# Altium schematic symbol library WE-VD.SchLib: 79 symbols (part 2 of 2)
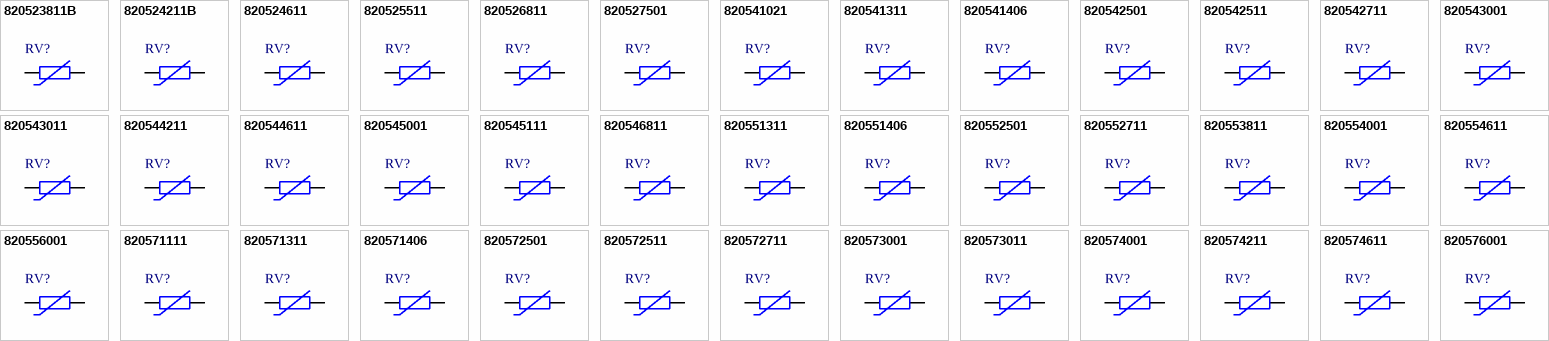
[diagram p2: symbols 820523811B to 820576001]

## 820543011
designator RV?, comment 300Vrms, 385Vdc  (value not drawn)
WE-VD Disk Varistor, THT, D16.5mm x H20mm, 300Vrms, 385Vdc, 4500A, 140J; Manufacturer Part Number: 820543011; Manufacturer: Wurth Elektronik; Operating Voltage (AC): 300V; Operating Voltage (DC): 385V; Power Dissipation: 0.6W; (Reverse) Breakdown Voltage: 470V; VDE Approval: Yes; Category: Surge Protection; Match Code: WE-VD; ComponentLink1Description: Website Link; ComponentLink1URL: https://www.we-online.com/redexpert/article/820543011?ad; ComponentLink2Description: Datasheet Link; ComponentLink2URL: https://www.we-online.com/redexpert/spec/820543011?ad; Mount: Through Hole; Operating Temperature Min: -40degC; Operating Temperature Max: 105degC; Packaging: Tape and Reel; Width: 7mm; Height: 20mm; Diameter: 16.5mm; Energy Absorption: 140J; (Reverse) Peak Pulse Current: 4500A
footprint D16.5W7H20P1.5_ShortPin
footprint D16.5W7H20P1.5
pins: 1, 2

## 820544211
designator RV?, comment 420Vrms, 560Vdc  (value not drawn)
WE-VD Disk Varistor, THT, D16.5mm x H20.5mm, 420Vrms, 560Vdc, 4500A, 172J; Manufacturer Part Number: 820544211; Manufacturer: Wurth Elektronik; Operating Voltage (AC): 420V; Operating Voltage (DC): 560V; Power Dissipation: 0.6W; (Reverse) Breakdown Voltage: 680V; VDE Approval: Yes; Category: Surge Protection; Match Code: WE-VD; ComponentLink1Description: Website Link; ComponentLink1URL: https://www.we-online.com/redexpert/article/820544211?ad; ComponentLink2Description: Datasheet Link; ComponentLink2URL: https://www.we-online.com/redexpert/spec/820544211?ad; Mount: Through Hole; Operating Temperature Min: -40degC; Operating Temperature Max: 105degC; Packaging: Tape and Reel; Width: 8.2mm; Height: 20.5mm; Diameter: 16.5mm; Energy Absorption: 172J; (Reverse) Peak Pulse Current: 4500A
footprint D16.5W8.2H20.5P2.5_ShortPin
footprint D16.5W8.2H20.5P2.5
pins: 1, 2

## 820544611
designator RV?, comment 460Vrms, 615Vdc  (value not drawn)
WE-VD Disk Varistor, THT, D16.5mm x H20.5mm, 460Vrms, 615Vdc, 4500A, 180J; Manufacturer Part Number: 820544611; Manufacturer: Wurth Elektronik; Operating Voltage (AC): 460V; Operating Voltage (DC): 615V; Power Dissipation: 0.6W; (Reverse) Breakdown Voltage: 750V; VDE Approval: Yes; Category: Surge Protection; Match Code: WE-VD; ComponentLink1Description: Website Link; ComponentLink1URL: https://www.we-online.com/redexpert/article/820544611?ad; ComponentLink2Description: Datasheet Link; ComponentLink2URL: https://www.we-online.com/redexpert/spec/820544611?ad; Mount: Through Hole; Operating Temperature Min: -40degC; Operating Temperature Max: 105degC; Packaging: Tape and Reel; Width: 8.6mm; Height: 20.5mm; Diameter: 16.5mm; Energy Absorption: 180J; (Reverse) Peak Pulse Current: 4500A
footprint D16.5W8.6H20.5P2.8_ShortPin
footprint D16.5W8.6H20.5P2.8
pins: 1, 2

## 820545001
designator RV?, comment 50Vrms, 65Vdc  (value not drawn)
WE-VD Disk Varistor, THT, D16.5mm x H19.5mm, 50Vrms, 65Vdc, 1000A, 22J; Manufacturer Part Number: 820545001; Manufacturer: Wurth Elektronik; Operating Voltage (AC): 50V; Operating Voltage (DC): 65V; Power Dissipation: 0.6W; (Reverse) Breakdown Voltage: 82V; VDE Approval: Yes; Category: Surge Protection; Match Code: WE-VD; ComponentLink1Description: Website Link; ComponentLink1URL: https://www.we-online.com/redexpert/article/820545001?ad; ComponentLink2Description: Datasheet Link; ComponentLink2URL: https://www.we-online.com/redexpert/spec/820545001?ad; Mount: Through Hole; Operating Temperature Min: -40degC; Operating Temperature Max: 105degC; Packaging: Tape and Reel; Width: 4.4mm; Height: 19.5mm; Diameter: 16.5mm; Energy Absorption: 22J; (Reverse) Peak Pulse Current: 1000A
footprint D16.5W4.4H19.5P0.8_ShortPin
footprint D16.5W4.4H19.5P0.8
pins: 1, 2

## 820545111
designator RV?, comment 510Vrms, 670Vdc  (value not drawn)
WE-VD Disk Varistor, THT, D16.5mm x H20.5mm, 510Vrms, 670Vdc, 4500A, 188J; Manufacturer Part Number: 820545111; Manufacturer: Wurth Elektronik; Operating Voltage (AC): 510V; Operating Voltage (DC): 670V; Power Dissipation: 0.6W; (Reverse) Breakdown Voltage: 820V; VDE Approval: Yes; Category: Surge Protection; Match Code: WE-VD; ComponentLink1Description: Website Link; ComponentLink1URL: https://www.we-online.com/redexpert/article/820545111?ad; ComponentLink2Description: Datasheet Link; ComponentLink2URL: https://www.we-online.com/redexpert/spec/820545111?ad; Mount: Through Hole; Operating Temperature Min: -40degC; Operating Temperature Max: 105degC; Packaging: Tape and Reel; Width: 9mm; Height: 20.5mm; Diameter: 16.5mm; Energy Absorption: 188J; (Reverse) Peak Pulse Current: 4500A
footprint D16.5W9H20.5P3.1_ShortPin
footprint D16.5W9H20.5P3.1
pins: 1, 2

## 820546811
designator RV?, comment 680Vrms, 895Vdc  (value not drawn)
WE-VD Disk Varistor, THT, D16.5mm x H20.5mm, 680Vrms, 895Vdc, 4500A, 248J; Manufacturer Part Number: 820546811; Manufacturer: Wurth Elektronik; Operating Voltage (AC): 680V; Operating Voltage (DC): 895V; Power Dissipation: 0.6W; (Reverse) Breakdown Voltage: 1100V; VDE Approval: Yes; Category: Surge Protection; Match Code: WE-VD; ComponentLink1Description: Website Link; ComponentLink1URL: https://www.we-online.com/redexpert/article/820546811?ad; ComponentLink2Description: Datasheet Link; ComponentLink2URL: https://www.we-online.com/redexpert/spec/820546811?ad; Mount: Through Hole; Operating Temperature Min: -40degC; Operating Temperature Max: 105degC; Packaging: Tape and Reel; Width: 10.7mm; Height: 20.5mm; Diameter: 16.5mm; Energy Absorption: 248J; (Reverse) Peak Pulse Current: 4500A
footprint D16.5W10.7H20.5P4.5_ShortPin
footprint D16.5W10.7H20.5P4.5
pins: 1, 2

## 820551311
designator RV?, comment 130Vrms, 170Vdc  (value not drawn)
WE-VD Disk Varistor, THT, D7.5mm x H10.5mm, 130Vrms, 170Vdc, 400A, 7.1J; Manufacturer Part Number: 820551311; Manufacturer: Wurth Elektronik; Operating Voltage (AC): 130V; Operating Voltage (DC): 170V; Power Dissipation: 0.1W; (Reverse) Breakdown Voltage: 200V; VDE Approval: Yes; Category: Surge Protection; Match Code: WE-VD; ComponentLink1Description: Website Link; ComponentLink1URL: https://www.we-online.com/redexpert/article/820551311?ad; ComponentLink2Description: Datasheet Link; ComponentLink2URL: https://www.we-online.com/redexpert/spec/820551311?ad; Mount: Through Hole; Operating Temperature Min: -40degC; Operating Temperature Max: 105degC; Packaging: Tape and Reel; Width: 4.2mm; Height: 10.5mm; Diameter: 7.5mm; Energy Absorption: 7.1J; (Reverse) Peak Pulse Current: 400A
footprint D7.5W4.2H10.5P0.8_ShortPin
footprint D7.5W4.2H10.5P0.8
pins: 1, 2

## 820551406
designator RV?, comment 14Vrms, 18Vdc  (value not drawn)
WE-VD Disk Varistor, THT, D7.5mm x H10.5mm, 14Vrms, 18Vdc, 100A, 0.7J; Manufacturer Part Number: 820551406; Manufacturer: Wurth Elektronik; Operating Voltage (AC): 14V; Operating Voltage (DC): 18V; Power Dissipation: 0.01W; (Reverse) Breakdown Voltage: 22V; VDE Approval: Yes; Category: Surge Protection; Match Code: WE-VD; ComponentLink1Description: Website Link; ComponentLink1URL: https://www.we-online.com/redexpert/article/820551406?ad; ComponentLink2Description: Datasheet Link; ComponentLink2URL: https://www.we-online.com/redexpert/spec/820551406?ad; Mount: Through Hole; Operating Temperature Min: -40degC; Operating Temperature Max: 105degC; Packaging: Tape and Reel; Width: 4.5mm; Height: 10.5mm; Diameter: 7.5mm; Energy Absorption: 0.7J; (Reverse) Peak Pulse Current: 100A
footprint D7.5W4.5H10.5P0.8_ShortPin
footprint D7.5W4.5H10.5P0.8
pins: 1, 2

## 820552501
designator RV?, comment 25Vrms, 31Vdc  (value not drawn)
WE-VD Disk Varistor, THT, D7.5mm x H10.5mm, 25Vrms, 31Vdc, 100A, 1.2J; Manufacturer Part Number: 820552501; Manufacturer: Wurth Elektronik; Operating Voltage (AC): 25V; Operating Voltage (DC): 31V; Power Dissipation: 0.01W; (Reverse) Breakdown Voltage: 39V; VDE Approval: Yes; Category: Surge Protection; Match Code: WE-VD; ComponentLink1Description: Website Link; ComponentLink1URL: https://www.we-online.com/redexpert/article/820552501?ad; ComponentLink2Description: Datasheet Link; ComponentLink2URL: https://www.we-online.com/redexpert/spec/820552501?ad; Mount: Through Hole; Operating Temperature Min: -40degC; Operating Temperature Max: 105degC; Packaging: Tape and Reel; Width: 4.7mm; Height: 10.5mm; Diameter: 7.5mm; Energy Absorption: 1.2J; (Reverse) Peak Pulse Current: 100A
footprint D7.5W4.7H10.5P0.8_ShortPin
footprint D7.5W4.7H10.5P0.8
pins: 1, 2

## 820552711
designator RV?, comment 275Vrms, 350Vdc  (value not drawn)
WE-VD Disk Varistor, THT, D7.5mm x H11mm, 275Vrms, 350Vdc, 400A, 16.5J; Manufacturer Part Number: 820552711; Manufacturer: Wurth Elektronik; Operating Voltage (AC): 275V; Operating Voltage (DC): 350V; Power Dissipation: 0.1W; (Reverse) Breakdown Voltage: 430V; VDE Approval: Yes; Category: Surge Protection; Match Code: WE-VD; ComponentLink1Description: Website Link; ComponentLink1URL: https://www.we-online.com/redexpert/article/820552711?ad; ComponentLink2Description: Datasheet Link; ComponentLink2URL: https://www.we-online.com/redexpert/spec/820552711?ad; Mount: Through Hole; Operating Temperature Min: -40degC; Operating Temperature Max: 105degC; Packaging: Tape and Reel; Width: 6.1mm; Height: 11mm; Diameter: 7.5mm; Energy Absorption: 16.5J; (Reverse) Peak Pulse Current: 400A
footprint D7.5W6.1H11P1.5_ShortPin
footprint D7.5W6.1H11P1.5
pins: 1, 2

## 820553811
designator RV?, comment 385Vrms, 505Vdc  (value not drawn)
WE-VD Disk Varistor, THT, D7.5mm x H11.5mm, 385Vrms, 505Vdc, 400A, 20.5J; Manufacturer Part Number: 820553811; Manufacturer: Wurth Elektronik; Operating Voltage (AC): 385V; Operating Voltage (DC): 505V; Power Dissipation: 0.1W; (Reverse) Breakdown Voltage: 620V; VDE Approval: Yes; Category: Surge Protection; Match Code: WE-VD; ComponentLink1Description: Website Link; ComponentLink1URL: https://www.we-online.com/redexpert/article/820553811?ad; ComponentLink2Description: Datasheet Link; ComponentLink2URL: https://www.we-online.com/redexpert/spec/820553811?ad; Mount: Through Hole; Operating Temperature Min: -40degC; Operating Temperature Max: 105degC; Packaging: Tape and Reel; Width: 7.2mm; Height: 11.5mm; Diameter: 7.5mm; Energy Absorption: 20.5J; (Reverse) Peak Pulse Current: 400A
footprint D7.5W7.2H11.5P2.4_ShortPin
footprint D7.5W7.2H11.5P2.4
pins: 1, 2

## 820554001
designator RV?, comment 40Vrms, 56Vdc  (value not drawn)
WE-VD Disk Varistor, THT, D7.5mm x H10.5mm, 40Vrms, 56Vdc, 100A, 2.1J; Manufacturer Part Number: 820554001; Manufacturer: Wurth Elektronik; Operating Voltage (AC): 40V; Operating Voltage (DC): 56V; Power Dissipation: 0.01W; (Reverse) Breakdown Voltage: 68V; VDE Approval: Yes; Category: Surge Protection; Match Code: WE-VD; ComponentLink1Description: Website Link; ComponentLink1URL: https://www.we-online.com/redexpert/article/820554001?ad; ComponentLink2Description: Datasheet Link; ComponentLink2URL: https://www.we-online.com/redexpert/spec/820554001?ad; Mount: Through Hole; Operating Temperature Min: -40degC; Operating Temperature Max: 105degC; Packaging: Tape and Reel; Width: 5.5mm; Height: 10.5mm; Diameter: 7.5mm; Energy Absorption: 2.1J; (Reverse) Peak Pulse Current: 100A
footprint D7.5W5.5H10.5P1.5_ShortPin
footprint D7.5W5.5H10.5P1.5
pins: 1, 2

## 820554611
designator RV?, comment 460Vrms, 615Vdc  (value not drawn)
WE-VD Disk Varistor, THT, D7.5mm x H11.5mm, 460Vrms, 615Vdc, 400A, 22.5J; Manufacturer Part Number: 820554611; Manufacturer: Wurth Elektronik; Operating Voltage (AC): 460V; Operating Voltage (DC): 615V; Power Dissipation: 0.1W; (Reverse) Breakdown Voltage: 750V; VDE Approval: Yes; Category: Surge Protection; Match Code: WE-VD; ComponentLink1Description: Website Link; ComponentLink1URL: https://www.we-online.com/redexpert/article/820554611?ad; ComponentLink2Description: Datasheet Link; ComponentLink2URL: https://www.we-online.com/redexpert/spec/820554611?ad; Mount: Through Hole; Operating Temperature Min: -40degC; Operating Temperature Max: 105degC; Packaging: Tape and Reel; Width: 7.9mm; Height: 11.5mm; Diameter: 7.5mm; Energy Absorption: 22.5J; (Reverse) Peak Pulse Current: 400A
footprint D7.5W7.9H11.5P3_ShortPin
footprint D7.5W7.9H11.5P3
pins: 1, 2

## 820556001
designator RV?, comment 60Vrms, 85Vdc  (value not drawn)
WE-VD Disk Varistor, THT, D7.5mm x H10.5mm, 60Vrms, 85Vdc, 400A, 3.5J; Manufacturer Part Number: 820556001; Manufacturer: Wurth Elektronik; Operating Voltage (AC): 60V; Operating Voltage (DC): 85V; Power Dissipation: 0.1W; (Reverse) Breakdown Voltage: 100V; VDE Approval: Yes; Category: Surge Protection; Match Code: WE-VD; ComponentLink1Description: Website Link; ComponentLink1URL: https://www.we-online.com/redexpert/article/820556001?ad; ComponentLink2Description: Datasheet Link; ComponentLink2URL: https://www.we-online.com/redexpert/spec/820556001?ad; Mount: Through Hole; Operating Temperature Min: -40degC; Operating Temperature Max: 105degC; Packaging: Tape and Reel; Width: 3.9mm; Height: 10.5mm; Diameter: 7.5mm; Energy Absorption: 3.5J; (Reverse) Peak Pulse Current: 400A
footprint D7.5W3.9H10.5P0.8_ShortPin
footprint D7.5W3.9H10.5P0.8
pins: 1, 2

## 820571111
designator RV?, comment 115Vrms, 150Vdc  (value not drawn)
WE-VD Disk Varistor, THT, D9mm x H12mm, 115Vrms, 150Vdc, 1200A, 13J; Manufacturer Part Number: 820571111; Manufacturer: Wurth Elektronik; Operating Voltage (AC): 115V; Operating Voltage (DC): 150V; Power Dissipation: 0.25W; (Reverse) Breakdown Voltage: 180V; VDE Approval: Yes; Category: Surge Protection; Match Code: WE-VD; ComponentLink1Description: Website Link; ComponentLink1URL: https://www.we-online.com/redexpert/article/820571111?ad; ComponentLink2Description: Datasheet Link; ComponentLink2URL: https://www.we-online.com/redexpert/spec/820571111?ad; Mount: Through Hole; Operating Temperature Min: -40degC; Operating Temperature Max: 105degC; Packaging: Tape and Reel; Width: 4.1mm; Height: 12mm; Diameter: 9mm; Energy Absorption: 13J; (Reverse) Peak Pulse Current: 1200A
footprint D9W4.1H12P0.8_ShortPin
footprint D9W4.1H12P0.8
pins: 1, 2

## 820571311
designator RV?, comment 130Vrms, 170Vdc  (value not drawn)
WE-VD Disk Varistor, THT, D9mm x H12mm, 130Vrms, 170Vdc, 1200A, 14.3J; Manufacturer Part Number: 820571311; Manufacturer: Wurth Elektronik; Operating Voltage (AC): 130V; Operating Voltage (DC): 170V; Power Dissipation: 0.25W; (Reverse) Breakdown Voltage: 200V; VDE Approval: Yes; Category: Surge Protection; Match Code: WE-VD; ComponentLink1Description: Website Link; ComponentLink1URL: https://www.we-online.com/redexpert/article/820571311?ad; ComponentLink2Description: Datasheet Link; ComponentLink2URL: https://www.we-online.com/redexpert/spec/820571311?ad; Mount: Through Hole; Operating Temperature Min: -40degC; Operating Temperature Max: 105degC; Packaging: Tape and Reel; Width: 4.2mm; Height: 12mm; Diameter: 9mm; Energy Absorption: 14.3J; (Reverse) Peak Pulse Current: 1200A
footprint D9W4.2H12P0.8_ShortPin
footprint D9W4.2H12P0.8
pins: 1, 2

## 820571406
designator RV?, comment 14Vrms, 18Vdc  (value not drawn)
WE-VD Disk Varistor, THT, D9mm x H12mm, 14Vrms, 18Vdc, 250A, 1.4J; Manufacturer Part Number: 820571406; Manufacturer: Wurth Elektronik; Operating Voltage (AC): 14V; Operating Voltage (DC): 18V; Power Dissipation: 0.02W; (Reverse) Breakdown Voltage: 22V; VDE Approval: Yes; Category: Surge Protection; Match Code: WE-VD; ComponentLink1Description: Website Link; ComponentLink1URL: https://www.we-online.com/redexpert/article/820571406?ad; ComponentLink2Description: Datasheet Link; ComponentLink2URL: https://www.we-online.com/redexpert/spec/820571406?ad; Mount: Through Hole; Operating Temperature Min: -40degC; Operating Temperature Max: 105degC; Packaging: Tape and Reel; Width: 4.5mm; Height: 12mm; Diameter: 9mm; Energy Absorption: 1.4J; (Reverse) Peak Pulse Current: 250A
footprint D9W4.5H12P0.8_ShortPin
footprint D9W4.5H12P0.8
pins: 1, 2

## 820572501
designator RV?, comment 25Vrms, 31Vdc  (value not drawn)
WE-VD Disk Varistor, THT, D9mm x H12mm, 25Vrms, 31Vdc, 250A, 2.4J; Manufacturer Part Number: 820572501; Manufacturer: Wurth Elektronik; Operating Voltage (AC): 25V; Operating Voltage (DC): 31V; Power Dissipation: 0.02W; (Reverse) Breakdown Voltage: 39V; VDE Approval: Yes; Category: Surge Protection; Match Code: WE-VD; ComponentLink1Description: Website Link; ComponentLink1URL: https://www.we-online.com/redexpert/article/820572501?ad; ComponentLink2Description: Datasheet Link; ComponentLink2URL: https://www.we-online.com/redexpert/spec/820572501?ad; Mount: Through Hole; Operating Temperature Min: -40degC; Operating Temperature Max: 105degC; Packaging: Tape and Reel; Width: 4.7mm; Height: 12mm; Diameter: 9mm; Energy Absorption: 2.4J; (Reverse) Peak Pulse Current: 250A
footprint D9W4.7H12P0.8_ShortPin
footprint D9W4.7H12P0.8
pins: 1, 2

## 820572511
designator RV?, comment 250Vrms, 320Vdc  (value not drawn)
WE-VD Disk Varistor, THT, D9mm x H12.5mm, 250Vrms, 320Vdc, 1200A, 30J; Manufacturer Part Number: 820572511; Manufacturer: Wurth Elektronik; Operating Voltage (AC): 250V; Operating Voltage (DC): 320V; Power Dissipation: 0.25W; (Reverse) Breakdown Voltage: 390V; VDE Approval: Yes; Category: Surge Protection; Match Code: WE-VD; ComponentLink1Description: Website Link; ComponentLink1URL: https://www.we-online.com/redexpert/article/820572511?ad; ComponentLink2Description: Datasheet Link; ComponentLink2URL: https://www.we-online.com/redexpert/spec/820572511?ad; Mount: Through Hole; Operating Temperature Min: -40degC; Operating Temperature Max: 105degC; Packaging: Tape and Reel; Width: 5.3mm; Height: 12.5mm; Diameter: 9mm; Energy Absorption: 30J; (Reverse) Peak Pulse Current: 1200A
footprint D9W5.3H12.5P1.3_ShortPin
footprint D9W5.3H12.5P1.3
pins: 1, 2

## 820572711
designator RV?, comment 275Vrms, 350Vdc  (value not drawn)
WE-VD Disk Varistor, THT, D9mm x H12.5mm, 275Vrms, 350Vdc, 1200A, 33J; Manufacturer Part Number: 820572711; Manufacturer: Wurth Elektronik; Operating Voltage (AC): 275V; Operating Voltage (DC): 350V; Power Dissipation: 0.25W; (Reverse) Breakdown Voltage: 430V; VDE Approval: Yes; Category: Surge Protection; Match Code: WE-VD; ComponentLink1Description: Website Link; ComponentLink1URL: https://www.we-online.com/redexpert/article/820572711?ad; ComponentLink2Description: Datasheet Link; ComponentLink2URL: https://www.we-online.com/redexpert/spec/820572711?ad; Mount: Through Hole; Operating Temperature Min: -40degC; Operating Temperature Max: 105degC; Packaging: Tape and Reel; Width: 6.1mm; Height: 12.5mm; Diameter: 9mm; Energy Absorption: 33J; (Reverse) Peak Pulse Current: 1200A
footprint D9W6.1H12.5P1.5_ShortPin
footprint D9W6.1H12.5P1.5
pins: 1, 2

## 820573001
designator RV?, comment 30Vrms, 38Vdc  (value not drawn)
WE-VD Disk Varistor, THT, D9mm x H12mm, 30Vrms, 38Vdc, 250A, 3J; Manufacturer Part Number: 820573001; Manufacturer: Wurth Elektronik; Operating Voltage (AC): 30V; Operating Voltage (DC): 38V; Power Dissipation: 0.02W; (Reverse) Breakdown Voltage: 47V; VDE Approval: Yes; Category: Surge Protection; Match Code: WE-VD; ComponentLink1Description: Website Link; ComponentLink1URL: https://www.we-online.com/redexpert/article/820573001?ad; ComponentLink2Description: Datasheet Link; ComponentLink2URL: https://www.we-online.com/redexpert/spec/820573001?ad; Mount: Through Hole; Operating Temperature Min: -40degC; Operating Temperature Max: 105degC; Packaging: Tape and Reel; Width: 5mm; Height: 12mm; Diameter: 9mm; Energy Absorption: 3J; (Reverse) Peak Pulse Current: 250A
footprint D9W5H12P0.8_ShortPin
footprint D9W5H12P0.8
pins: 1, 2

## 820573011
designator RV?, comment 300Vrms, 385Vdc  (value not drawn)
WE-VD Disk Varistor, THT, D9mm x H12.5mm, 300Vrms, 385Vdc, 1200A, 35J; Manufacturer Part Number: 820573011; Manufacturer: Wurth Elektronik; Operating Voltage (AC): 300V; Operating Voltage (DC): 385V; Power Dissipation: 0.25W; (Reverse) Breakdown Voltage: 470V; VDE Approval: Yes; Category: Surge Protection; Match Code: WE-VD; ComponentLink1Description: Website Link; ComponentLink1URL: https://www.we-online.com/redexpert/article/820573011?ad; ComponentLink2Description: Datasheet Link; ComponentLink2URL: https://www.we-online.com/redexpert/spec/820573011?ad; Mount: Through Hole; Operating Temperature Min: -40degC; Operating Temperature Max: 105degC; Packaging: Tape and Reel; Width: 6.4mm; Height: 12.5mm; Diameter: 9mm; Energy Absorption: 35J; (Reverse) Peak Pulse Current: 1200A
footprint D9W6.4H12.5P1.7_ShortPin
footprint D9W6.4H12.5P1.7
pins: 1, 2

## 820574001
designator RV?, comment 40Vrms, 56Vdc  (value not drawn)
WE-VD Disk Varistor, THT, D9mm x H12mm, 40Vrms, 56Vdc, 250A, 4.3J; Manufacturer Part Number: 820574001; Manufacturer: Wurth Elektronik; Operating Voltage (AC): 40V; Operating Voltage (DC): 56V; Power Dissipation: 0.02W; (Reverse) Breakdown Voltage: 68V; VDE Approval: Yes; Category: Surge Protection; Match Code: WE-VD; ComponentLink1Description: Website Link; ComponentLink1URL: https://www.we-online.com/redexpert/article/820574001?ad; ComponentLink2Description: Datasheet Link; ComponentLink2URL: https://www.we-online.com/redexpert/spec/820574001?ad; Mount: Through Hole; Operating Temperature Min: -40degC; Operating Temperature Max: 105degC; Packaging: Tape and Reel; Width: 5.5mm; Height: 12mm; Diameter: 9mm; Energy Absorption: 4.3J; (Reverse) Peak Pulse Current: 250A
footprint D9W5.5H12P1.5_ShortPin
footprint D9W5.5H12P1.5
pins: 1, 2

## 820574211
designator RV?, comment 420Vrms, 560Vdc  (value not drawn)
WE-VD Disk Varistor, THT, D9mm x H13mm, 420Vrms, 560Vdc, 1200A, 43J; Manufacturer Part Number: 820574211; Manufacturer: Wurth Elektronik; Operating Voltage (AC): 420V; Operating Voltage (DC): 560V; Power Dissipation: 0.25W; (Reverse) Breakdown Voltage: 680V; VDE Approval: Yes; Category: Surge Protection; Match Code: WE-VD; ComponentLink1Description: Website Link; ComponentLink1URL: https://www.we-online.com/redexpert/article/820574211?ad; ComponentLink2Description: Datasheet Link; ComponentLink2URL: https://www.we-online.com/redexpert/spec/820574211?ad; Mount: Through Hole; Operating Temperature Min: -40degC; Operating Temperature Max: 105degC; Packaging: Tape and Reel; Width: 7.5mm; Height: 13mm; Diameter: 9mm; Energy Absorption: 43J; (Reverse) Peak Pulse Current: 1200A
footprint D9W7.5H13P2.7_ShortPin
footprint D9W7.5H13P2.7
pins: 1, 2

## 820574611
designator RV?, comment 460Vrms, 615Vdc  (value not drawn)
WE-VD Disk Varistor, THT, D9mm x H13mm, 460Vrms, 615Vdc, 1200A, 45J; Manufacturer Part Number: 820574611; Manufacturer: Wurth Elektronik; Operating Voltage (AC): 460V; Operating Voltage (DC): 615V; Power Dissipation: 0.25W; (Reverse) Breakdown Voltage: 750V; VDE Approval: Yes; Category: Surge Protection; Match Code: WE-VD; ComponentLink1Description: Website Link; ComponentLink1URL: https://www.we-online.com/redexpert/article/820574611?ad; ComponentLink2Description: Datasheet Link; ComponentLink2URL: https://www.we-online.com/redexpert/spec/820574611?ad; Mount: Through Hole; Operating Temperature Min: -40degC; Operating Temperature Max: 105degC; Packaging: Tape and Reel; Width: 7.9mm; Height: 13mm; Diameter: 9mm; Energy Absorption: 45J; (Reverse) Peak Pulse Current: 1200A
footprint D9W7.9H13P3_ShortPin
footprint D9W7.9H13P3
pins: 1, 2

## 820576001
designator RV?, comment 60Vrms, 85Vdc  (value not drawn)
WE-VD Disk Varistor, THT, D9mm x H12mm, 60Vrms, 85Vdc, 1200A, 7J; Manufacturer Part Number: 820576001; Manufacturer: Wurth Elektronik; Operating Voltage (AC): 60V; Operating Voltage (DC): 85V; Power Dissipation: 0.25W; (Reverse) Breakdown Voltage: 100V; VDE Approval: Yes; Category: Surge Protection; Match Code: WE-VD; ComponentLink1Description: Website Link; ComponentLink1URL: https://www.we-online.com/redexpert/article/820576001?ad; ComponentLink2Description: Datasheet Link; ComponentLink2URL: https://www.we-online.com/redexpert/spec/820576001?ad; Mount: Through Hole; Operating Temperature Min: -40degC; Operating Temperature Max: 105degC; Packaging: Tape and Reel; Width: 3.9mm; Height: 12mm; Diameter: 9mm; Energy Absorption: 7J; (Reverse) Peak Pulse Current: 1200A
footprint D9W3.9H12P0.8_ShortPin
footprint D9W3.9H12P0.8
pins: 1, 2